# Altium schematic symbol library Components.SchLib: 76 symbols (part 3 of 3)
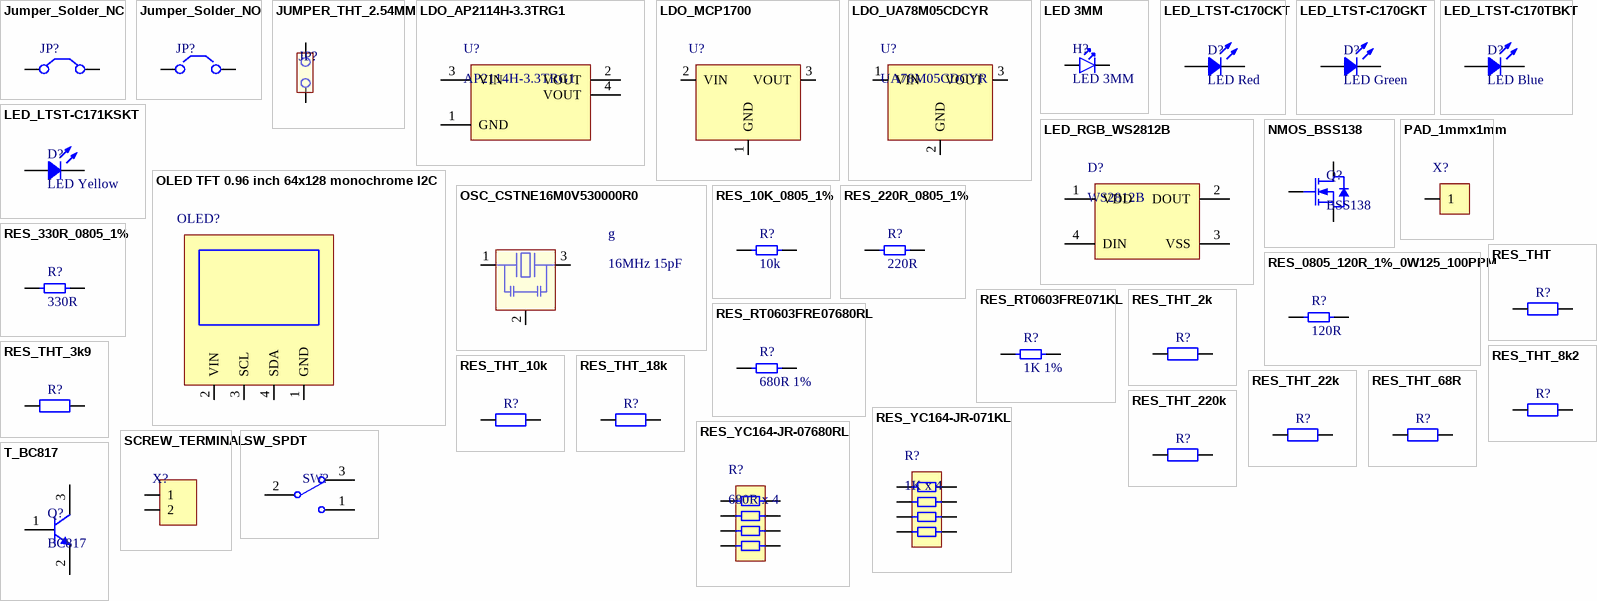
[diagram p3: symbols Jumper_Solder_NC to T_BC817]

## RES_YC164-JR-071KL
designator R?, comment 1K x 4
RES ARRAY 4 RES 1K OHM 1206; Manufacturer 1: Yageo; Manufacturer Part Number 1: YC164-JR-071KL; Temperature Coefficient: 200ppm/°C; Resistance: 1kR; Tolerance: 5%; Number of Resistors: 4; Working Voltage: 50V; Circuit Type: Isolated; Power Per Element: 62.5mW; Number of Contacts: 8; Supplier 1: Mouser; Stock 1: 145373; Pricing 1: 1=0.13000, 10=0.07200, 50=0.07200, 100=0.02700, 1000=0.02000, 5000=0.01200, 10000=0.01100, 25000=0.01000 (USD); RoHS: Yes; Mount: Surface Mount; Case/Package: 0603; Number of Pins: 8; Number of Terminals: 8; Case Code (Metric): 3216; Case Code (Imperial): 1206; Min Operating Temperature: -55°C; Max Operating Temperature: 155°C; Packaging: Cut Tape; Number of Circuits: 4; Voltage Rating: 50V; Number of Elements: 4; Package Quantity: 1; Military Standard: Not; Termination: Convex; Power Dissipation: 62.5mW; Length: 0.126inch; Height: 0.028inch; Width: 0.063inch; Terminal Pitch: 0.8mm; Depth: 1.6mm; Radiation Hardening: No; REACH SVHC: Unknown; Lead Free: Lead Free; ComponentLink1URL: https://datasheet.ciiva.com/2694/pyu-yc-tc164-51-rohs-l-3-2694463.pdf?src-supplier=Digi-Key; ComponentLink1Description: https://datasheet.ciiva.com/2694/pyu-yc-tc164-51-rohs-l-3-2694463.pdf?src-supplier=Digi-Key; ComponentLink2URL: https://datasheet.ciiva.com/7620/443424-7620735.pdf?src-supplier=Element14; ComponentLink2Description: https://datasheet.ciiva.com/7620/443424-7620735.pdf?src-supplier=Element14; ComponentLink3URL: https://datasheet.ciiva.com/17051/pyu-yc-tc164-51-rohs-l-3-17051807.pdf?src-supplier=Future+Electronics; ComponentLink3Description: https://datasheet.ciiva.com/17051/pyu-yc-tc164-51-rohs-l-3-17051807.pdf?src-supplier=Future+Electronics; ComponentLink4URL: https://datasheet.ciiva.com/2694/pyu-yc-tc164-51-rohs-l-3-2694464.pdf?src-supplier=Digi-Key; ComponentLink4Description: https://datasheet.ciiva.com/2694/pyu-yc-tc164-51-rohs-l-3-2694464.pdf?src-supplier=Digi-Key; ComponentLink5URL: https://datasheet.ciiva.com/2694/pyu-yc-tc164-51-rohs-l-3-2694465.pdf?src-supplier=Digi-Key; ComponentLink5Description: https://datasheet.ciiva.com/2694/pyu-yc-tc164-51-rohs-l-3-2694465.pdf?src-supplier=Digi-Key; ComponentLink6URL: https://datasheet.ciiva.com/28379/pyu-yc-tc164-51-rohs-l-3-28379349.pdf?src-supplier=Avnet+Europe; ComponentLink6Description: https://datasheet.ciiva.com/28379/pyu-yc-tc164-51-rohs-l-3-28379349.pdf?src-supplier=Avnet+Europe; Supplier Part Number 1: 603-YC164-JR-071KL
pins: 1, 2, 3, 4, 5, 6, 7, 8

## RES_YC164-JR-07680RL
designator R?, comment 680R x 4
RES ARRAY 4 RES 680 OHM 1206; Manufacturer 1: Yageo; Manufacturer Part Number 1: YC164-JR-07680RL; Tolerance: 5%; Number of Elements: 4; Voltage Rating: 50V; Circuit Type: Isolated; Power Per Element: 62.5mW; Temperature Coefficient: 200ppm/°C; Number of Contacts: 8; Supplier 1: Mouser; Stock 1: 16666; Pricing 1: 1=0.14000, 10=0.07200, 50=0.07200, 100=0.02700, 1000=0.02000, 5000=0.01200, 10000=0.01100, 25000=0.01000 (USD); RoHS: Yes; Mount: Surface Mount; Case/Package: 0603; Number of Pins: 8; Case Code (Metric): 3216; Case Code (Imperial): 1206; Number of Terminals: 8; Min Operating Temperature: -55°C; Max Operating Temperature: 155°C; Resistance: 680R; Package Quantity: 1; Packaging: Tape and Reel; Number of Resistors: 4; Military Standard: Not; Termination: Convex; Power Dissipation: 62.5mW; Working Voltage: 50V; Number of Circuits: 4; Length: 0.126inch; Height: 0.028inch; Width: 0.063inch; Terminal Pitch: 0.8mm; Depth: 1.6mm; REACH SVHC: Unknown; Lead Free: Lead Free; ComponentLink1URL: https://datasheet.ciiva.com/2688/pyu-yc-tc164-51-rohs-l-3-2688403.pdf?src-supplier=Digi-Key; ComponentLink1Description: https://datasheet.ciiva.com/2688/pyu-yc-tc164-51-rohs-l-3-2688403.pdf?src-supplier=Digi-Key; ComponentLink2URL: https://datasheet.ciiva.com/17201/pyu-yc-tc164-51-rohs-l-3-17201830.pdf?src-supplier=Future+Electronics; ComponentLink2Description: https://datasheet.ciiva.com/17201/pyu-yc-tc164-51-rohs-l-3-17201830.pdf?src-supplier=Future+Electronics; ComponentLink3URL: https://datasheet.ciiva.com/2688/pyu-yc-tc164-51-rohs-l-3-2688404.pdf?src-supplier=Digi-Key; ComponentLink3Description: https://datasheet.ciiva.com/2688/pyu-yc-tc164-51-rohs-l-3-2688404.pdf?src-supplier=Digi-Key; ComponentLink4URL: https://datasheet.ciiva.com/2688/pyu-yc-tc164-51-rohs-l-3-2688405.pdf?src-supplier=Digi-Key; ComponentLink4Description: https://datasheet.ciiva.com/2688/pyu-yc-tc164-51-rohs-l-3-2688405.pdf?src-supplier=Digi-Key; Supplier Part Number 1: 603-YC164-JR-07680RL
pins: 1, 2, 3, 4, 5, 6, 7, 8

## SCREW_TERMINAL
designator X?  (value not drawn)
Terminal Block Connector 5.08mm
footprint KF301-2P (Connector; Header; 2 Position)
pins: 1, 2

## SW_SPDT
designator SW?, comment SPDT  (value not drawn)
SK12d07 G4 right angle TOGGLE switch 3PIN 1P2T Handle high 4MM PITCH 2.0MM Slide Switches
footprint SW_SPDT_THT_RIGHT_ANGLE
pins: 1, 2, 3

## T_BC817
designator Q?, comment BC817
TRANS NPN 45V 0.5A SOT23; Manufacturer 1: ON Semiconductor; Manufacturer Part Number 1: BC817-25LT1G; Max Power Dissipation: 300mW; Max Collector Current: 500mA; Transition Frequency: 100MHz; Element Configuration: Single; Collector Base Voltage (VCBO): 50V; hFE Min: 160; Emitter Base Voltage (VEBO): 5V; Collector Emitter Saturation Voltage: 700mV; Number of Elements: 1; Supplier 1: Mouser; RoHS: Yes; Category: BJTs; Stock 1: 39593; Pricing 1: 1=0.14000, 10=0.13300, 100=0.04700, 1000=0.03100, 3000=0.02300, 9000=0.02000 (USD); Case/Package: SOT-23-3; Number of Pins: 3; Contact Plating: Tin,Matte; Min Operating Temperature: -55°C; Max Operating Temperature: 150°C; Packaging: Tape and Reel; Collector Emitter Voltage (VCEO): 45V; Polarity: NPN; Package Quantity: 1; Collector Emitter Breakdown Voltage: 45V; Power Dissipation: 300mW; Max Breakdown Voltage: 45V; Gain Bandwidth Product: 100MHz; Frequency: 100MHz; Max Frequency: 100MHz; Current Rating: 500mA; Length: 2.9mm; Height: 0.94mm; Width: 1.3mm; Radiation Hardening: No; Lead Free: Lead Free; REACH SVHC: No SVHC; Halogen Free: Halogen Free; ComponentLink1URL: https://datasheet.ciiva.com/15138/getdatasheetpartid-38405-15138602.pdf?src-supplier=Verical; ComponentLink1Description: https://datasheet.ciiva.com/15138/getdatasheetpartid-38405-15138602.pdf?src-supplier=Verical; ComponentLink2URL: https://datasheet.ciiva.com/27748/2010413-27748829.pdf?src-supplier=Jameco; ComponentLink2Description: https://datasheet.ciiva.com/27748/2010413-27748829.pdf?src-supplier=Jameco; ComponentLink3URL: https://datasheet.ciiva.com/1195/bc817-16lt1-d-1195763.pdf?src-supplier=Element14; ComponentLink3Description: https://datasheet.ciiva.com/1195/bc817-16lt1-d-1195763.pdf?src-supplier=Element14; ComponentLink4URL: https://datasheet.ciiva.com/976/bc817-16lt1-d-976356.pdf?src-supplier=Digi-Key; ComponentLink4Description: https://datasheet.ciiva.com/976/bc817-16lt1-d-976356.pdf?src-supplier=Digi-Key; ComponentLink5URL: https://datasheet.ciiva.com/1195/bc817-16lt1-d-1195764.pdf?src-supplier=Element14; ComponentLink5Description: https://datasheet.ciiva.com/1195/bc817-16lt1-d-1195764.pdf?src-supplier=Element14; ComponentLink6URL: https://datasheet.ciiva.com/976/bc817-16lt1-d-976357.pdf?src-supplier=Digi-Key; ComponentLink6Description: https://datasheet.ciiva.com/976/bc817-16lt1-d-976357.pdf?src-supplier=Digi-Key; ComponentLink7URL: https://datasheet.ciiva.com/4722/bc817-16lt1-d-104560-4722229.pdf?src-supplier=Mouser; ComponentLink7Description: https://datasheet.ciiva.com/4722/bc817-16lt1-d-104560-4722229.pdf?src-supplier=Mouser; ComponentLink8URL: https://datasheet.ciiva.com/22641/bc817-16lt1-d-22641013.pdf?src-supplier=Farnell; ComponentLink8Description: https://datasheet.ciiva.com/22641/bc817-16lt1-d-22641013.pdf?src-supplier=Farnell; ComponentLink9URL: https://datasheet.ciiva.com/22664/1842041-22664101.pdf?src-supplier=Element14; ComponentLink9Description: https://datasheet.ciiva.com/22664/1842041-22664101.pdf?src-supplier=Element14; ComponentLink10URL: https://datasheet.ciiva.com/976/bc817-16lt1-d-976358.pdf?src-supplier=Digi-Key; ComponentLink10Description: https://datasheet.ciiva.com/976/bc817-16lt1-d-976358.pdf?src-supplier=Digi-Key; ComponentLink11URL: https://datasheet.ciiva.com/25996/bc817-16lt1-d-25996327.pdf?src-supplier=Avnet+Europe; ComponentLink11Description: https://datasheet.ciiva.com/25996/bc817-16lt1-d-25996327.pdf?src-supplier=Avnet+Europe; ComponentLink12URL: https://datasheet.ciiva.com/11197/bc817-16lt1-d-11197514.pdf?src-supplier=Avnet; ComponentLink12Description: https://datasheet.ciiva.com/11197/bc817-16lt1-d-11197514.pdf?src-supplier=Avnet; ComponentLink13URL: https://datasheet.ciiva.com/22664/bc817-16lt1-d-22664204.pdf?src-supplier=Element14; ComponentLink13Description: https://datasheet.ciiva.com/22664/bc817-16lt1-d-22664204.pdf?src-supplier=Element14; ComponentLink14URL: https://datasheet.ciiva.com/1196/bc817-16lt1-d-1196558.pdf?src-supplier=Element14; ComponentLink14Description: https://datasheet.ciiva.com/1196/bc817-16lt1-d-1196558.pdf?src-supplier=Element14; Supplier Part Number 1: 863-BC817-25LT1G
footprint SOT23-3P95_240X120L20X48N (Small Outline Transistor (SOT23), 0.95 mm pitch; 3 pin, 2.92 mm L X 1.325 mm W X 1.20 mm H body)
pins: 1 B, 2 E, 3 C